# EAGLE library part MICRO_SD (library Custom)
Micro SD card holder, Push-Pull, Exposed leads for easy (non-reflow) soldering PN: HR1941CT-ND
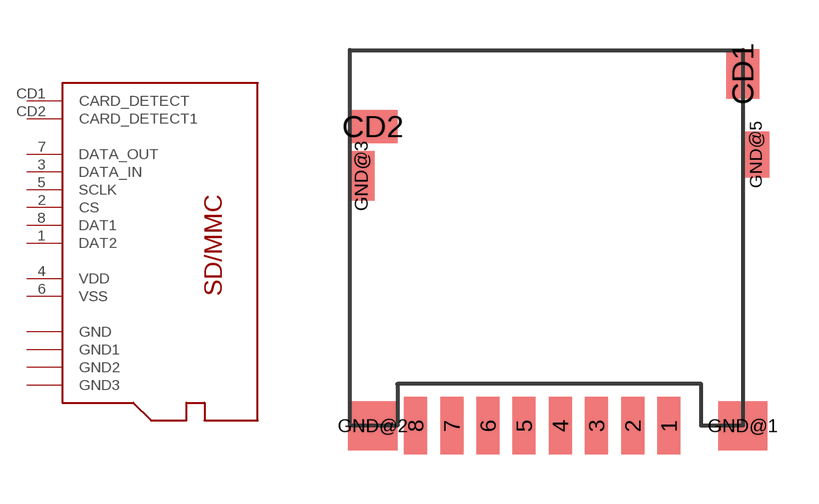
[diagram p4: symbol with the pads of CUSTOM-PARTS_SD_MICRO; footprint CUSTOM-PARTS_SD_MICRO]

Designator prefix -

## MICRO_SD  [CUSTOM-PARTS_SD_MICRO]
1  DAT2
2  CS
3  DATA_IN
4  VDD
5  SCLK
6  VSS
7  DATA_OUT
8  DAT1
CD1  CARD_DETECT
CD2  CARD_DETECT1
GND@1  GND
GND@2  GND1
GND@3  GND2
GND@5  GND3

## Footprint CUSTOM-PARTS_SD_MICRO (pad centres in mm)
smd 0.7 x 1.75: 1 -2.25,0; 2 -3.35,0; 3 -4.45,0; 4 -5.55,0; 5 -6.65,0; 6 -7.75,0; 7 -8.85,0; 8 -9.95,0
smd 1 x 1.5: CD1 0,10.7
smd 1.5 x 1: CD2 -11.25,9.1
smd 1.5 x 1.5: GND@1 0,0; GND@2 -11.25,0
smd 0.8 x 1.5: GND@3 -11.6,7.6
smd 0.8 x 1.4: GND@5 0.4,8.25